# Altium schematic symbol library BANANA.Schlib: 1 symbol
Pins are listed as number, name and electrical type; pins without a type are passive.

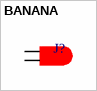
[diagram p0: symbol BANANA]

## BANANA
designator J?, comment Banana  (value not drawn)
pins: 1, 2